# Altium footprint library Con Header.PcbLib: 110 footprints (part 1 of 7)
Each footprint in its own frame and in the unit in brackets; x right, y up, seen from the top. Pads: shape width x height; smd on the part's side, far side on the other; paste and mask are expansions set on the pad; w line width, h text height; cw(c..) or ccw(c..) is an arc to the next point about the centre after c.
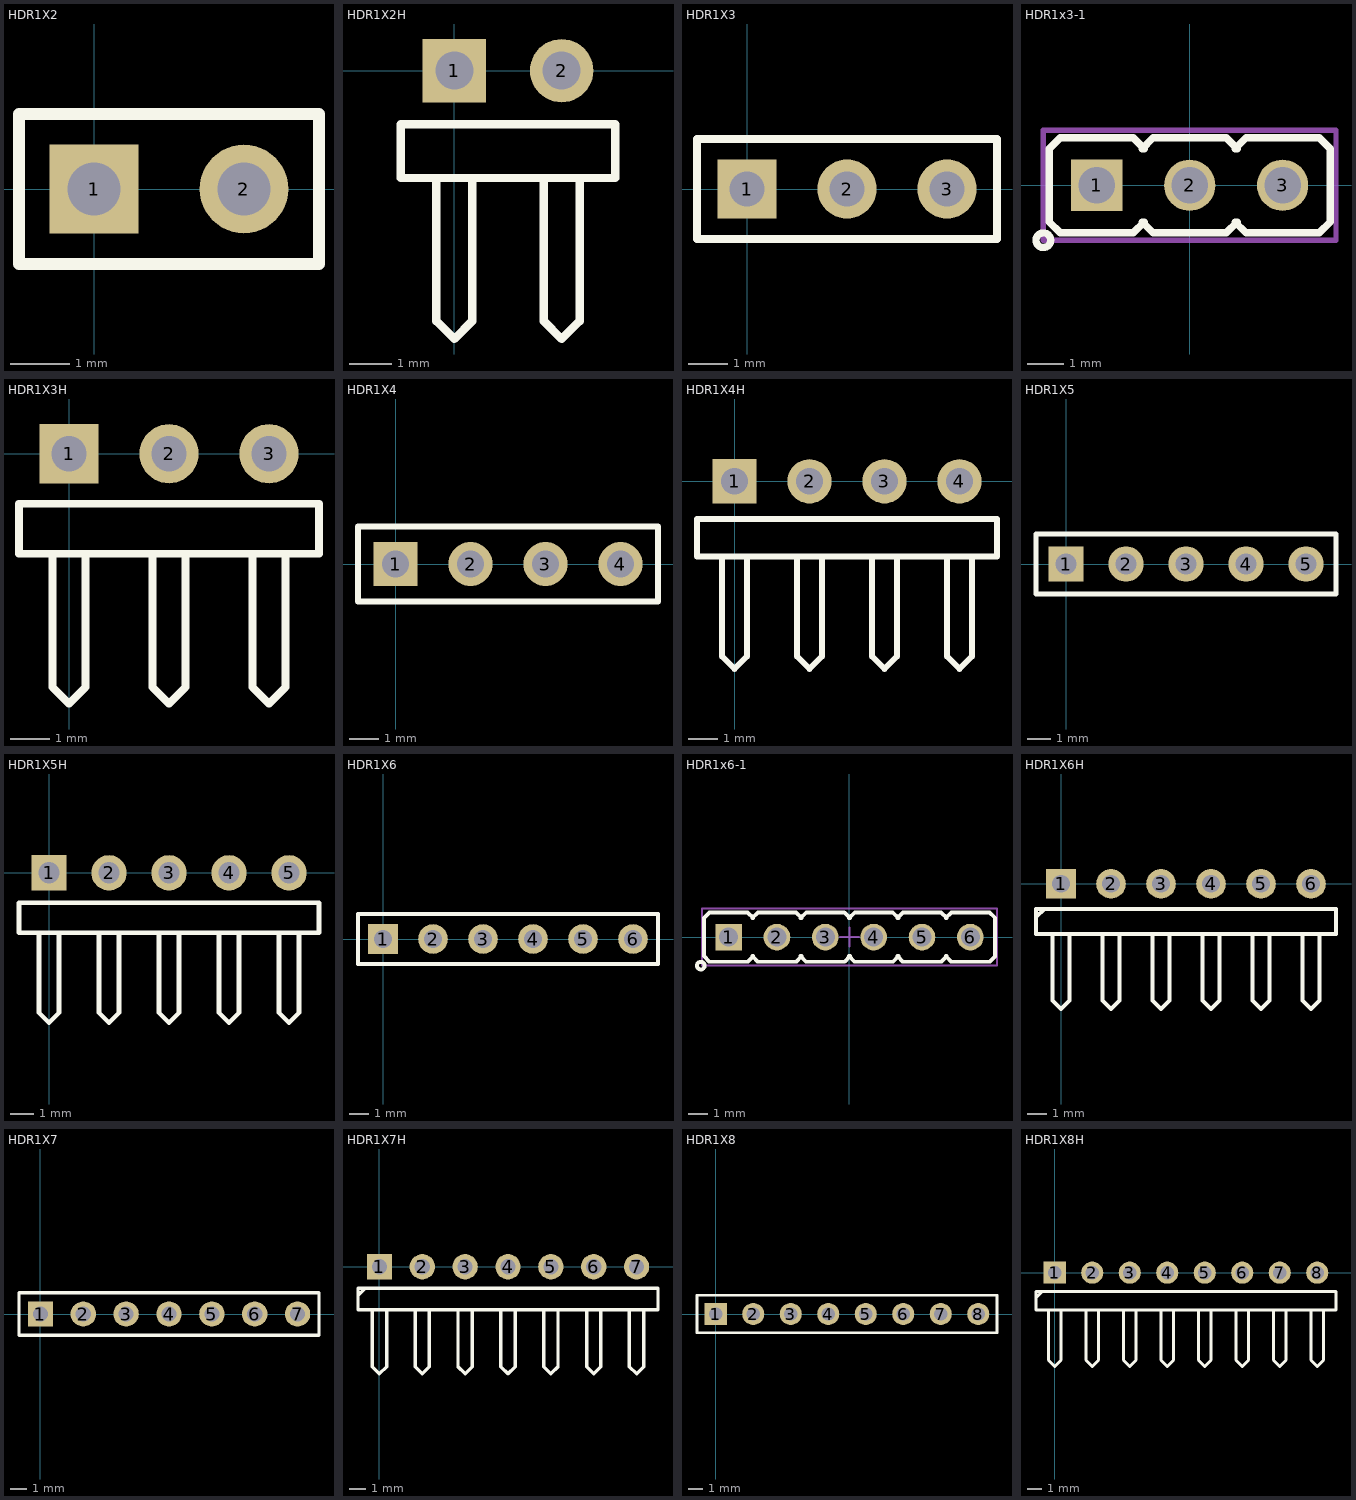
[diagram p0: the footprints below, top view; thin cyan lines are the x and y axes]

## HDR1X2 [mm] "Connector; Header; 2 Position"
pads (2):
  rect 1.5x1.5 hole 0.9: 1(0,0)
  round 1.5 hole 0.9: 2(2.54,0)
Top Overlay:
  lines w0.2: -1.27,-1.27 3.81,-1.27 3.81,1.27 -1.27,1.27 -1.27,-1.27
3D body "User Library-Header1x2.STEP": height 8.79, standoff -2.19, extent -1.27,-1.28 3.81,1.26

## HDR1X2H [mm] "Connector; Header; 2 Position; Right Angle"
pads (2):
  rect 1.5x1.5 hole 0.9: 1(0,0)
  round 1.5 hole 0.9: 2(2.54,0)
Top Overlay:
  lines w0.2: -0.423,-2.54 -0.423,-5.927 0,-6.35 0.423,-5.927 0.423,-2.54 ; 2.117,-2.54 2.117,-5.927 2.54,-6.35 2.963,-5.927 2.963,-2.54 ; -1.27,-2.54 3.81,-2.54 3.81,-1.27 -1.27,-1.27 -1.27,-2.54

## HDR1X3 [mm] "Connector; Header; 3 Position"
pads (3):
  rect 1.5x1.5 hole 0.9: 1(0,0)
  round 1.5 hole 0.9: 2(2.54,0) 3(5.08,0)
Top Overlay:
  lines w0.2: -1.27,-1.27 6.35,-1.27 6.35,1.27 -1.27,1.27 -1.27,-1.27
3D body "Header3.STEP": height 8.38, standoff -2.54, extent -1.265,-1.27 6.355,1.27

## HDR1x3-1 [mm] "Header /Jumper box-Designer Abbas Basereh"
height 7.62
pads (3):
  rect 1.4x1.4 / inner rect 1.4x1.4 / far side rect 1.4x2.2 hole 1 mask+0.1: 1(-2.54,0)
  round 1.4 / inner round 1.4 / far side oval 1.4x2.2 hole 1 mask+0.1: 2(0,0) 3(2.54,0)
Top Overlay:
  circle w0.2: c-4,-1.5 r0.2
  lines w0.2: -1.3,-1 -1,-1.3 1,-1.3 1.3,-1 ; -1.3,1 -1,1.3 1,1.3 1.3,1 ; -1.24,-1 -1.54,-1.3 -3.54,-1.3 -3.84,-1 -3.84,1 -3.54,1.3 -1.54,1.3 -1.24,1 ; 1.24,-1 1.54,-1.3 3.54,-1.3 3.84,-1 3.84,1 3.54,1.3 1.54,1.3 1.24,1
Mechanical 15:
  lines w0.15: -4,-1.5 -4,1.5 4,1.5 4,-1.5 -4,-1.5
3D body "User Library-PinHeaderX3.STEP": height 8.61, standoff -3.58, extent -3.82,-1.46 3.8,1.46

## HDR1X3H [mm] "Connector; Header; 3 Position; Right Angle"
pads (3):
  rect 1.5x1.5 hole 0.9: 1(0,0)
  round 1.5 hole 0.9: 2(2.54,0) 3(5.08,0)
Top Overlay:
  lines w0.2: -0.423,-2.54 -0.423,-5.927 0,-6.35 0.423,-5.927 0.423,-2.54 ; 2.117,-2.54 2.117,-5.927 2.54,-6.35 2.963,-5.927 2.963,-2.54 ; 4.657,-2.54 4.657,-5.927 5.08,-6.35 5.503,-5.927 5.503,-2.54 ; -1.27,-2.54 -1.27,-1.27 6.35,-1.27 6.35,-2.54 -1.27,-2.54

## HDR1X4 [mm] "Connector; Header; 4 Position"
pads (4):
  rect 1.5x1.5 hole 0.9: 1(0,0)
  round 1.5 hole 0.9: 2(2.54,0) 3(5.08,0) 4(7.62,0)
Top Overlay:
  lines w0.2: -1.27,-1.27 -1.27,1.27 8.89,1.27 8.89,-1.27 -1.27,-1.27
3D body "Header4.STEP": height 8.38, standoff -2.54, extent -1.274,-1.279 8.886,1.261

## HDR1X4H [mm] "Connector; Header; 4 Position; Right Angle"
pads (4):
  rect 1.5x1.5 hole 0.9: 1(0,0)
  round 1.5 hole 0.9: 2(2.54,0) 3(5.08,0) 4(7.62,0)
Top Overlay:
  lines w0.2: -0.423,-2.54 -0.423,-5.927 0,-6.35 0.423,-5.927 0.423,-2.54 ; 2.117,-2.54 2.117,-5.927 2.54,-6.35 2.963,-5.927 2.963,-2.54 ; 4.657,-2.54 4.657,-5.927 5.08,-6.35 5.503,-5.927 5.503,-2.54 ; 7.197,-2.54 7.197,-5.927 7.62,-6.35 8.043,-5.927 8.043,-2.54 ; -1.27,-2.54 8.89,-2.54 8.89,-1.27 -1.27,-1.27 -1.27,-2.54

## HDR1X5 [mm] "Connector; Header; 5 Position"
pads (5):
  rect 1.5x1.5 hole 0.9: 1(0,0)
  round 1.5 hole 0.9: 2(2.54,0) 3(5.08,0) 4(7.62,0) 5(10.16,0)
Top Overlay:
  lines w0.2: -1.27,-1.27 -1.27,1.27 11.43,1.27 11.43,-1.27 -1.27,-1.27
3D body "Header5.STEP": height 8.38, standoff -2.54, extent -1.279,-1.274 11.421,1.266

## HDR1X5H [mm] "Connector; Header; 5 Position; Right Angle"
pads (5):
  rect 1.5x1.5 hole 0.9: 1(0,0)
  round 1.5 hole 0.9: 2(2.54,0) 3(5.08,0) 4(7.62,0) 5(10.16,0)
Top Overlay:
  lines w0.2: -0.423,-2.54 -0.423,-5.927 0,-6.35 0.423,-5.927 0.423,-2.54 ; 2.117,-2.54 2.117,-5.927 2.54,-6.35 2.963,-5.927 2.963,-2.54 ; 4.657,-2.54 4.657,-5.927 5.08,-6.35 5.503,-5.927 5.503,-2.54 ; 7.197,-2.54 7.197,-5.927 7.62,-6.35 8.043,-5.927 8.043,-2.54 ; 9.737,-2.54 9.737,-5.927 10.16,-6.35 10.583,-5.927 10.583,-2.54 ; -1.27,-2.54 11.43,-2.54 11.43,-1.27 -1.27,-1.27 -1.27,-2.54

## HDR1X6 [mm] "Connector; Header; 6 Position"
pads (6):
  rect 1.5x1.5 hole 0.9: 1(0,0)
  round 1.5 hole 0.9: 2(2.54,0) 3(5.08,0) 4(7.62,0) 5(10.16,0) 6(12.7,0)
Top Overlay:
  lines w0.2: -1.27,-1.27 -1.27,1.27 13.97,1.27 13.97,-1.27 -1.27,-1.27
3D body "Header6.STEP": height 8.38, standoff -2.54, extent -1.261,-1.255 13.979,1.285

## HDR1x6-1 [mm] "Header /Jumper box-Designer Abbas Basereh"
height 7.62
pads (6):
  rect 1.4x1.4 / inner rect 1.4x1.4 / far side rect 1.4x2.2 hole 1 mask+0.1: 1(-6.35,0)
  round 1.4 / inner round 1.4 / far side oval 1.4x2.2 hole 1 mask+0.1: 2(-3.81,0) 3(-1.27,0) 4(1.27,0) 5(3.81,0) 6(6.35,0)
Top Overlay:
  circle w0.2: c-7.81,-1.5 r0.2
  lines w0.2: -5.11,-1 -4.81,-1.3 -2.81,-1.3 -2.51,-1 ; -5.11,1 -4.81,1.3 -2.81,1.3 -2.51,1 ; -5.05,-1 -5.35,-1.3 -7.35,-1.3 -7.65,-1 -7.65,1 -7.35,1.3 -5.35,1.3 -5.05,1 ; -2.57,-1 -2.27,-1.3 -0.27,-1.3 0.03,-1 ; -2.57,1 -2.27,1.3 -0.27,1.3 0.03,1 ; -0.025,-1 0.275,-1.3 2.275,-1.3 2.575,-1 ; -0.025,1 0.275,1.3 2.275,1.3 2.575,1 ; 2.515,-1 2.815,-1.3 4.815,-1.3 5.115,-1 ; 2.515,1 2.815,1.3 4.815,1.3 5.115,1 ; 5.055,-1 5.355,-1.3 7.355,-1.3 7.64,-1.015 7.64,1.015 7.355,1.3 5.355,1.3 5.055,1
Mechanical 15:
  lines w0.1: -0.5,0 0.5,0 ; 0,-0.5 0,0.5 ; -7.75,-1.5 -7.75,1.5 7.75,1.5 7.75,-1.5 -7.75,-1.5
3D body "User Library-PinHeaderX3.STEP": height 8.61, standoff -3.58, extent -0.01,-1.46 7.61,1.46
3D body "User Library-PinHeaderX3.STEP": height 8.61, standoff -3.58, extent -7.63,-1.46 -0.01,1.46

## HDR1X6H [mm] "Connector; Header; 6 Position; Right Angle"
pads (6):
  rect 1.5x1.5 hole 0.9: 1(0,0)
  round 1.5 hole 0.9: 2(2.54,0) 3(5.08,0) 4(7.62,0) 5(10.16,0) 6(12.7,0)
Top Overlay:
  lines w0.2: -1.27,-1.693 -0.847,-1.27 ; -0.423,-2.54 -0.423,-5.927 0,-6.35 0.423,-5.927 0.423,-2.54 ; 2.117,-2.54 2.117,-5.927 2.54,-6.35 2.963,-5.927 2.963,-2.54 ; 4.657,-2.54 4.657,-5.927 5.08,-6.35 5.503,-5.927 5.503,-2.54 ; 7.197,-2.54 7.197,-5.927 7.62,-6.35 8.043,-5.927 8.043,-2.54 ; 9.737,-2.54 9.737,-5.927 10.16,-6.35 10.583,-5.927 10.583,-2.54 ; 12.277,-2.54 12.277,-5.927 12.7,-6.35 13.123,-5.927 13.123,-2.54 ; -1.27,-2.54 -1.27,-1.27 13.97,-1.27 13.97,-2.54 -1.27,-2.54

## HDR1X7 [mm] "Connector; Header; 7 Position"
pads (7):
  rect 1.5x1.5 hole 0.9: 1(0,0)
  round 1.5 hole 0.9: 2(2.54,0) 3(5.08,0) 4(7.62,0) 5(10.16,0) 6(12.7,0) 7(15.24,0)
Top Overlay:
  lines w0.2: -1.27,-1.27 16.51,-1.27 16.51,1.27 -1.27,1.27 -1.27,-1.27

## HDR1X7H [mm] "Connector; Header; 7 Position; Right Angle"
pads (7):
  rect 1.5x1.5 hole 0.9: 1(0,0)
  round 1.5 hole 0.9: 2(2.54,0) 3(5.08,0) 4(7.62,0) 5(10.16,0) 6(12.7,0) 7(15.24,0)
Top Overlay:
  lines w0.2: -1.27,-1.693 -0.847,-1.27 ; -0.423,-2.54 -0.423,-5.927 0,-6.35 0.423,-5.927 0.423,-2.54 ; 2.117,-2.54 2.117,-5.927 2.54,-6.35 2.963,-5.927 2.963,-2.54 ; 4.657,-2.54 4.657,-5.927 5.08,-6.35 5.503,-5.927 5.503,-2.54 ; 7.197,-2.54 7.197,-5.927 7.62,-6.35 8.043,-5.927 8.043,-2.54 ; 9.737,-2.54 9.737,-5.927 10.16,-6.35 10.583,-5.927 10.583,-2.54 ; 12.277,-2.54 12.277,-5.927 12.7,-6.35 13.123,-5.927 13.123,-2.54 ; 14.817,-2.54 14.817,-5.927 15.24,-6.35 15.663,-5.927 15.663,-2.54 ; -1.27,-2.54 -1.27,-1.27 16.51,-1.27 16.51,-2.54 -1.27,-2.54

## HDR1X8 [mm] "Connector; Header; 8 Position"
pads (8):
  rect 1.5x1.5 hole 0.9: 1(0,0)
  round 1.5 hole 0.9: 2(2.54,0) 3(5.08,0) 4(7.62,0) 5(10.16,0) 6(12.7,0) 7(15.24,0) 8(17.78,0)
Top Overlay:
  lines w0.2: -1.27,-1.27 -1.27,1.27 19.05,1.27 19.05,-1.27 -1.27,-1.27

## HDR1X8H [mm] "Connector; Header; 8 Position; Right Angle"
pads (8):
  rect 1.5x1.5 hole 0.9: 1(0,0)
  round 1.5 hole 0.9: 2(2.54,0) 3(5.08,0) 4(7.62,0) 5(10.16,0) 6(12.7,0) 7(15.24,0) 8(17.78,0)
Top Overlay:
  lines w0.2: -1.27,-1.693 -0.847,-1.27 ; -0.423,-2.54 -0.423,-5.927 0,-6.35 0.423,-5.927 0.423,-2.54 ; 2.117,-2.54 2.117,-5.927 2.54,-6.35 2.963,-5.927 2.963,-2.54 ; 4.657,-2.54 4.657,-5.927 5.08,-6.35 5.503,-5.927 5.503,-2.54 ; 7.197,-2.54 7.197,-5.927 7.62,-6.35 8.043,-5.927 8.043,-2.54 ; 9.737,-2.54 9.737,-5.927 10.16,-6.35 10.583,-5.927 10.583,-2.54 ; 12.277,-2.54 12.277,-5.927 12.7,-6.35 13.123,-5.927 13.123,-2.54 ; 14.817,-2.54 14.817,-5.927 15.24,-6.35 15.663,-5.927 15.663,-2.54 ; 17.357,-2.54 17.357,-5.927 17.78,-6.35 18.203,-5.927 18.203,-2.54 ; -1.27,-2.54 -1.27,-1.27 19.05,-1.27 19.05,-2.54 -1.27,-2.54